# Altium schematic symbol library Smart Card Connectors.SchLib: 2 symbols
Pins are listed as number, name and electrical type; pins without a type are passive.

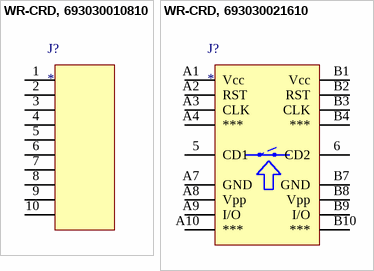
[diagram p0: symbols WR-CRD, 693030010810 to WR-CRD, 693030021610]

## WR-CRD, 693030010810
designator J?
WR-CRD Smart Card_Header type_8 pins; Manufacturer: Würth Elektronik eiSos GmbH; partNo: 693030010810; ComponentLink1 Description: Manufacturer; ComponentLink2 Description: Datasheet; NoPins: 10; ComponentLink1URL: http://www.we-online.de; ComponentLink2URL: http://katalog.we-online.de/em/datasheet/693030010810.pdf; Created by: Karrer Zheng; Created Date: 10/10/2014
footprint 693030010810
pins: 1, 2, 3, 4, 5, 6, 7, 8, 9, 10

## WR-CRD, 693030021610
designator J?
WR-CRD Smart Card_Dual-way Header type_16 pins; Manufacturer: Würth Elektronik eiSos GmbH; partNo: 693030021610; ComponentLink1 Description: Manufacturer; ComponentLink2 Description: Datasheet; NoPins: 18; ComponentLink1URL: http://www.we-online.de; ComponentLink2URL: http://katalog.we-online.de/em/datasheet/693030021610.pdf; Created by: Karrer Zheng; Created Date: 10/10/2014
footprint 693030021610
pins: 5 CD1, 6 CD2, A1 Vcc, A2 RST, A3 CLK, A4 ***, A7 GND, A8 Vpp, A9 I/O, A10 ***, B1 Vcc, B2 RST, B3 CLK, B4 ***, B7 GND, B8 Vpp, B9 I/O, B10 ***